# Altium integrated library Zarlink Comm ISDN Circuit.IntLib: 14 symbols
Pins are listed as number, name and electrical type; pins without a type are passive.

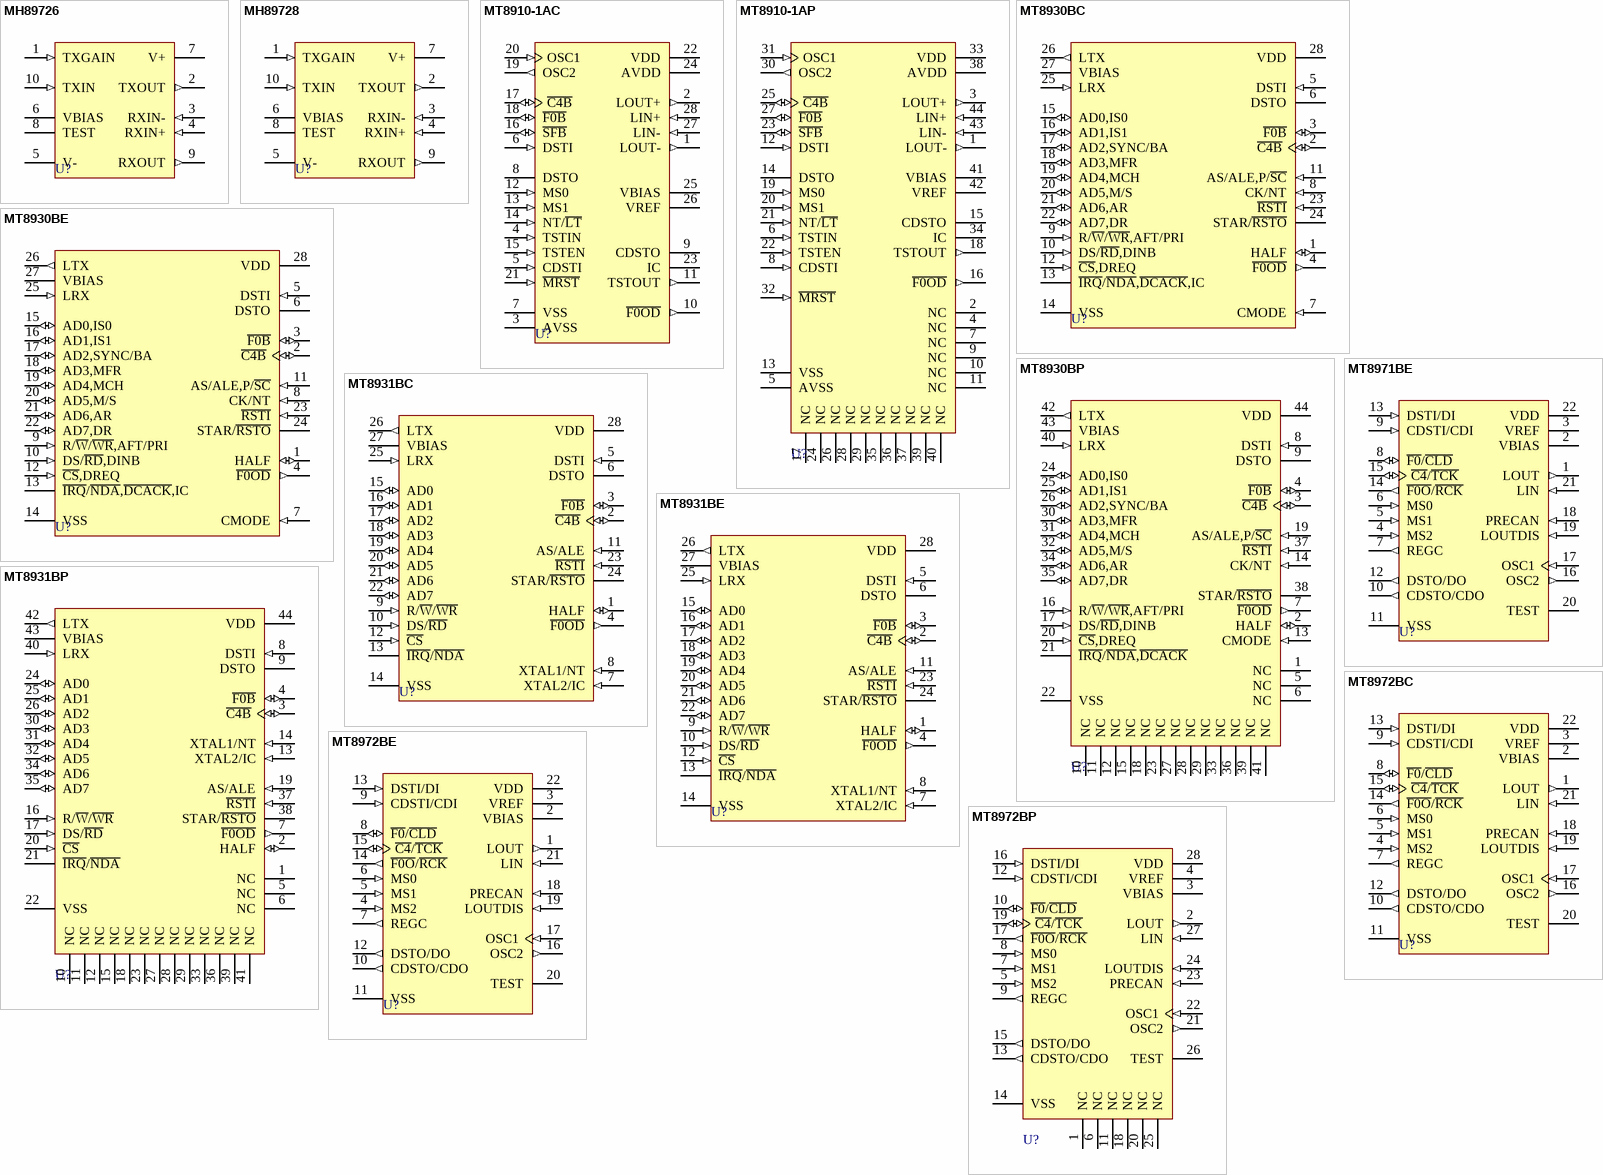
[diagram p0: symbols MH89726 to MT8972BP]

## MH89726
designator U?
Loop Extender Circuits; ComponentAvailability: Obsolete; Published: 8-Jun-2000; LatestRevisionDate: 17-Jul-2002; LatestRevisionNote: Re-released for DXP Platform.; DatasheetVersion: Issue 2 November 1990; PackageVersion: Nov-1990; PackageReference: SIL10A; Publisher: Altium Limited; PackageDescription: SIP; 10 Leads; Body 25.4 x 3.6 mm (LxW typ); Pitch 2.54 mm; ComponentLink1Description: Manufacturer Link; ComponentLink1URL: http://www.zarlink.com/; ComponentLink2Description: Datasheet; ComponentLink2URL: http://assets.zarlink.com/DS/zarlink_MH89726_JAN_02.pdf
footprint SIL10A (SIP; 10 Leads; Body 25.4 x 3.6 mm (LxW typ); Pitch 2.54 mm)
pins: 1 TXGAIN (in), 2 TXOUT (out), 3 RXIN- (in), 4 RXIN+ (in), 5 V- (power), 6 VBIAS, 7 V+ (power), 8 TEST, 9 RXOUT (out), 10 TXIN (in)

## MH89728
designator U?
Loop Extender Circuits; ComponentAvailability: Obsolete; Published: 8-Jun-2000; LatestRevisionDate: 17-Jul-2002; LatestRevisionNote: Re-released for DXP Platform.; DatasheetVersion: Issue 2 November 1990; PackageVersion: Nov-1990; PackageReference: SIL10A; Publisher: Altium Limited; PackageDescription: SIP; 10 Leads; Body 25.4 x 3.6 mm (LxW typ); Pitch 2.54 mm; ComponentLink1Description: Manufacturer Link; ComponentLink1URL: http://www.zarlink.com/; ComponentLink2Description: Datasheet; ComponentLink2URL: http://assets.zarlink.com/DS/zarlink_MH89728_APR_02.pdf
footprint SIL10A (SIP; 10 Leads; Body 25.4 x 3.6 mm (LxW typ); Pitch 2.54 mm)
pins: 1 TXGAIN (in), 2 TXOUT (out), 3 RXIN- (in), 4 RXIN+ (in), 5 V- (power), 6 VBIAS, 7 V+ (power), 8 TEST, 9 RXOUT (out), 10 TXIN (in)

## MT8910-1AC
designator U?
Digital Subscriber Line Interface Circuit; Note: Pin 23 should be left unconnected; ComponentAvailability: Obsolete; Published: 8-Jun-2000; LatestRevisionDate: 17-Jul-2002; LatestRevisionNote: Re-released for DXP Platform.; DatasheetVersion: Issue 1 August 1993; PackageVersion: 1995; PackageReference: CDIP28; Publisher: Altium Limited; PackageDescription: DIP; 28 Leads; Row Spacing 15.24 mm; Pitch 2.54 mm; ComponentLink1Description: Manufacturer Link; ComponentLink1URL: http://products.zarlink.com; ComponentLink2Description: Datasheet; ComponentLink2URL: http://assets.zarlink.com/DS/zarlink_MT8910_MAR_97.pdf
footprint CDIP28 (DIP; 28 Leads; Row Spacing 15.24 mm; Pitch 2.54 mm)
pins: 1 LOUT- (out), 2 LOUT+ (out), 3 AVSS (power), 4 TSTIN (in), 5 CDSTI (in), 6 DSTI (in), 7 VSS (power), 8 DSTO (hiz), 9 CDSTO (hiz), 10 ~{F0OD} (out), 11 TSTOUT (out), 12 MS0 (in), 13 MS1 (in), 14 NT/~{LT} (in), 15 TSTEN (in), 16 ~{SFB} (io), 17 ~{C4B} (io), 18 ~{F0B} (io), 19 OSC2 (out), 20 OSC1 (in), 21 ~{MRST} (in), 22 VDD (power), 23 IC, 24 AVDD (power), 25 VBIAS, 26 VREF, 27 LIN- (in), 28 LIN+ (in)

## MT8910-1AP
designator U?
Digital Subscriber Line Interface Circuit; Note: Pins 2, 4, 7-11, 17, 24, 26, 28, 29, 34-37, 39 and 40 should be left unconnected; ComponentAvailability: Obsolete; Published: 8-Jun-2000; LatestRevisionDate: 13-Apr-2006; LatestRevisionNote: IPC-7351 Footprint Added.; DatasheetVersion: Issue 2 March 1997; PackageVersion: 1997; PackageReference: PLCC44; Publisher: Altium Limited; PackageDescription: 44-Pin Leaded Chip Carrier 1.27 mm Pitch; Code_IPC: PLCC-44; ComponentLink1Description: Manufacturer Link; ComponentLink1URL: http://products.zarlink.com; ComponentLink2Description: Datasheet; ComponentLink2URL: http://assets.zarlink.com/DS/zarlink_MT8910_MAR_97.pdf
footprint PLCC44_N (Leaded Chip Carrier, 44-Leads, Body 16.6x16.6mm, Pitch 1.27mm, IPC Medium Density)
footprint PLCC44_L (Leaded Chip Carrier, 44-Leads, Body 16.6x16.6mm, Pitch 1.27mm, IPC High Density)
footprint PLCC44_M (Leaded Chip Carrier, 44-Leads, Body 16.6x16.6mm, Pitch 1.27mm, IPC Low Density)
pins: 1 LOUT- (out), 2 NC, 3 LOUT+ (out), 4 NC, 5 AVSS (power), 6 TSTIN (in), 7 NC, 8 CDSTI (in), 9 NC, 10 NC, 11 NC, 12 DSTI (in), 13 VSS (power), 14 DSTO (hiz), 15 CDSTO (hiz), 16 ~{F0OD} (out), 17 NC, 18 TSTOUT (out), 19 MS0 (in), 20 MS1 (in), 21 NT/~{LT} (in), 22 TSTEN (in), 23 ~{SFB} (io), 24 NC, 25 ~{C4B} (io), 26 NC, 27 ~{F0B} (io), 28 NC, 29 NC, 30 OSC2 (out), 31 OSC1 (in), 32 ~{MRST} (in), 33 VDD (power), 34 IC, 35 NC, 36 NC, 37 NC, 38 AVDD (power), 39 NC, 40 NC, 41 VBIAS, 42 VREF, 43 LIN- (in), 44 LIN+ (in)

## MT8930BC
designator U?
Subscriber Network Interface Circuit; Published: 8-Jun-2000; LatestRevisionDate: 17-Jul-2002; LatestRevisionNote: Re-released for DXP Platform.; DatasheetVersion: Issue 2 August 1993; PackageVersion: 1995; PackageReference: CDIP28; Publisher: Altium Limited; PackageDescription: DIP; 28 Leads; Row Spacing 15.24 mm; Pitch 2.54 mm; ComponentLink1Description: Manufacturer Link; ComponentLink1URL: http://products.zarlink.com; ComponentLink2Description: Datasheet; ComponentLink2URL: http://assets.zarlink.com/DS/zarlink_MT8930C_FEB_05.pdf
footprint CDIP28 (DIP; 28 Leads; Row Spacing 15.24 mm; Pitch 2.54 mm)
pins: 1 HALF (io), 2 ~{C4B} (io), 3 ~{F0B} (io), 4 ~{F0OD} (out), 5 DSTI (in), 6 DSTO (hiz), 7 CMODE (in), 8 CK/NT (in), 9 R/~{W}/~{WR},AFT/PRI (in), 10 DS/~{RD},DINB (in), 11 AS/ALE,P/~{SC} (in), 12 ~{CS},DREQ (in), 13 ~{IRQ}/~{NDA},~{DCACK},IC (oc), 14 VSS (power), 15 AD0,IS0 (io), 16 AD1,IS1 (io), 17 AD2,SYNC/BA (io), 18 AD3,MFR (io), 19 AD4,MCH (io), 20 AD5,M/S (io), 21 AD6,AR (io), 22 AD7,DR (io), 23 ~{RSTI} (in), 24 STAR/~{RSTO} (oc), 25 LRX (in), 26 LTX (out), 27 VBIAS, 28 VDD (power)

## MT8930BE
designator U?
Subscriber Network Interface Circuit; Published: 8-Jun-2000; LatestRevisionDate: 17-Jul-2002; LatestRevisionNote: Re-released for DXP Platform.; DatasheetVersion: Issue 2 August 1993; PackageVersion: 1997; PackageReference: PDIP28; Publisher: Altium Limited; PackageDescription: DIP; 28 Leads; Row Spacing 15.24 mm; Pitch 2.54 mm; Code_JEDEC: MS-011-AB; ComponentLink1Description: Manufacturer Link; ComponentLink1URL: http://products.zarlink.com; ComponentLink2Description: Datasheet; ComponentLink2URL: http://assets.zarlink.com/DS/zarlink_MT8930C_FEB_05.pdf
footprint PDIP28 (DIP; 28 Leads; Row Spacing 15.24 mm; Pitch 2.54 mm)
pins: 1 HALF (io), 2 ~{C4B} (io), 3 ~{F0B} (io), 4 ~{F0OD} (out), 5 DSTI (in), 6 DSTO (hiz), 7 CMODE (in), 8 CK/NT (in), 9 R/~{W}/~{WR},AFT/PRI (in), 10 DS/~{RD},DINB (in), 11 AS/ALE,P/~{SC} (in), 12 ~{CS},DREQ (in), 13 ~{IRQ}/~{NDA},~{DCACK},IC (oc), 14 VSS (power), 15 AD0,IS0 (io), 16 AD1,IS1 (io), 17 AD2,SYNC/BA (io), 18 AD3,MFR (io), 19 AD4,MCH (io), 20 AD5,M/S (io), 21 AD6,AR (io), 22 AD7,DR (io), 23 ~{RSTI} (in), 24 STAR/~{RSTO} (oc), 25 LRX (in), 26 LTX (out), 27 VBIAS, 28 VDD (power)

## MT8930BP
designator U?
Subscriber Network Interface Circuit; Published: 8-Jun-2000; LatestRevisionDate: 13-Apr-2006; LatestRevisionNote: IPC-7351 Footprint Added.; DatasheetVersion: Issue 2 August 1993; PackageVersion: 1997; PackageReference: PLCC44; Publisher: Altium Limited; PackageDescription: 44-Pin Leaded Chip Carrier 1.27 mm Pitch; Code_IPC: PLCC-44; ComponentLink1Description: Manufacturer Link; ComponentLink1URL: http://products.zarlink.com; ComponentLink2Description: Datasheet; ComponentLink2URL: http://assets.zarlink.com/DS/zarlink_MT8930C_FEB_05.pdf
footprint PLCC44_N (Leaded Chip Carrier, 44-Leads, Body 16.6x16.6mm, Pitch 1.27mm, IPC Medium Density)
footprint PLCC44_L (Leaded Chip Carrier, 44-Leads, Body 16.6x16.6mm, Pitch 1.27mm, IPC High Density)
footprint PLCC44_M (Leaded Chip Carrier, 44-Leads, Body 16.6x16.6mm, Pitch 1.27mm, IPC Low Density)
pins: 1 NC, 2 HALF (io), 3 ~{C4B} (io), 4 ~{F0B} (io), 5 NC, 6 NC, 7 ~{F0OD} (out), 8 DSTI (in), 9 DSTO (hiz), 10 NC, 11 NC, 12 NC, 13 CMODE (in), 14 CK/NT (in), 15 NC, 16 R/~{W}/~{WR},AFT/PRI (in), 17 DS/~{RD},DINB (in), 18 NC, 19 AS/ALE,P/~{SC} (in), 20 ~{CS},DREQ (in), 21 ~{IRQ}/~{NDA},~{DCACK} (oc), 22 VSS (power), 23 NC, 24 AD0,IS0 (io), 25 AD1,IS1 (io), 26 AD2,SYNC/BA (io), 27 NC, 28 NC, 29 NC, 30 AD3,MFR (io), 31 AD4,MCH (io), 32 AD5,M/S (io), 33 NC, 34 AD6,AR (io), 35 AD7,DR (io), 36 NC, 37 ~{RSTI} (in), 38 STAR/~{RSTO} (oc), 39 NC, 40 LRX (in), 41 NC, 42 LTX (out), 43 VBIAS, 44 VDD (power)

## MT8931BC
designator U?
Subscriber Network Interface Circuit; Published: 8-Jun-2000; LatestRevisionDate: 17-Jul-2002; LatestRevisionNote: Re-released for DXP Platform.; DatasheetVersion: Issue 2 August 1993; PackageVersion: 1995; PackageReference: CDIP28; Publisher: Altium Limited; PackageDescription: DIP; 28 Leads; Row Spacing 15.24 mm; Pitch 2.54 mm; ComponentLink1Description: Manufacturer Link; ComponentLink1URL: http://products.zarlink.com; ComponentLink2Description: Datasheet; ComponentLink2URL: http://assets.zarlink.com/DS/zarlink_MT8931C_NOV_97.pdf
footprint CDIP28 (DIP; 28 Leads; Row Spacing 15.24 mm; Pitch 2.54 mm)
pins: 1 HALF (io), 2 ~{C4B} (io), 3 ~{F0B} (io), 4 ~{F0OD} (out), 5 DSTI (in), 6 DSTO (hiz), 7 XTAL2/IC (in), 8 XTAL1/NT (in), 9 R/~{W}/~{WR} (in), 10 DS/~{RD} (in), 11 AS/ALE (in), 12 ~{CS} (in), 13 ~{IRQ}/~{NDA} (oc), 14 VSS (power), 15 AD0 (io), 16 AD1 (io), 17 AD2 (io), 18 AD3 (io), 19 AD4 (io), 20 AD5 (io), 21 AD6 (io), 22 AD7 (io), 23 ~{RSTI} (in), 24 STAR/~{RSTO} (oc), 25 LRX (in), 26 LTX (out), 27 VBIAS, 28 VDD (power)

## MT8931BE
designator U?
Subscriber Network Interface Circuit; Published: 8-Jun-2000; LatestRevisionDate: 17-Jul-2002; LatestRevisionNote: Re-released for DXP Platform.; DatasheetVersion: Issue 2 August 1993; PackageVersion: 1997; PackageReference: PDIP28; Publisher: Altium Limited; PackageDescription: DIP; 28 Leads; Row Spacing 15.24 mm; Pitch 2.54 mm; Code_JEDEC: MS-011-AB; ComponentLink1Description: Manufacturer Link; ComponentLink1URL: http://products.zarlink.com; ComponentLink2Description: Datasheet; ComponentLink2URL: http://assets.zarlink.com/DS/zarlink_MT8931C_NOV_97.pdf
footprint PDIP28 (DIP; 28 Leads; Row Spacing 15.24 mm; Pitch 2.54 mm)
pins: 1 HALF (io), 2 ~{C4B} (io), 3 ~{F0B} (io), 4 ~{F0OD} (out), 5 DSTI (in), 6 DSTO (hiz), 7 XTAL2/IC (in), 8 XTAL1/NT (in), 9 R/~{W}/~{WR} (in), 10 DS/~{RD} (in), 11 AS/ALE (in), 12 ~{CS} (in), 13 ~{IRQ}/~{NDA} (oc), 14 VSS (power), 15 AD0 (io), 16 AD1 (io), 17 AD2 (io), 18 AD3 (io), 19 AD4 (io), 20 AD5 (io), 21 AD6 (io), 22 AD7 (io), 23 ~{RSTI} (in), 24 STAR/~{RSTO} (oc), 25 LRX (in), 26 LTX (out), 27 VBIAS, 28 VDD (power)

## MT8931BP
designator U?
Subscriber Network Interface Circuit; Published: 8-Jun-2000; LatestRevisionDate: 13-Apr-2006; LatestRevisionNote: IPC-7351 Footprint Added.; DatasheetVersion: Issue 2 August 1993; PackageVersion: 1997; PackageReference: PLCC44; Publisher: Altium Limited; PackageDescription: 44-Pin Leaded Chip Carrier 1.27 mm Pitch; Code_IPC: PLCC-44; ComponentLink1Description: Manufacturer Link; ComponentLink1URL: http://www.zarlink.com/; ComponentLink2Description: Datasheet; ComponentLink2URL: http://assets.zarlink.com/DS/zarlink_MT8931C_NOV_97.pdf
footprint PLCC44_N (Leaded Chip Carrier, 44-Leads, Body 16.6x16.6mm, Pitch 1.27mm, IPC Medium Density)
footprint PLCC44_L (Leaded Chip Carrier, 44-Leads, Body 16.6x16.6mm, Pitch 1.27mm, IPC High Density)
footprint PLCC44_M (Leaded Chip Carrier, 44-Leads, Body 16.6x16.6mm, Pitch 1.27mm, IPC Low Density)
pins: 1 NC, 2 HALF (io), 3 ~{C4B} (io), 4 ~{F0B} (io), 5 NC, 6 NC, 7 ~{F0OD} (out), 8 DSTI (in), 9 DSTO (hiz), 10 NC, 11 NC, 12 NC, 13 XTAL2/IC (in), 14 XTAL1/NT (in), 15 NC, 16 R/~{W}/~{WR} (in), 17 DS/~{RD} (in), 18 NC, 19 AS/ALE (in), 20 ~{CS} (in), 21 ~{IRQ}/~{NDA} (oc), 22 VSS (power), 23 NC, 24 AD0 (io), 25 AD1 (io), 26 AD2 (io), 27 NC, 28 NC, 29 NC, 30 AD3 (io), 31 AD4 (io), 32 AD5 (io), 33 NC, 34 AD6 (io), 35 AD7 (io), 36 NC, 37 ~{RSTI} (in), 38 STAR/~{RSTO} (oc), 39 NC, 40 LRX (in), 41 NC, 42 LTX (out), 43 VBIAS, 44 VDD (power)

## MT8971BE
designator U?
Digital Subscriber Interface Circuit Digital Network Interface Circuit; Published: 8-Jun-2000; LatestRevisionDate: 17-Jul-2002; LatestRevisionNote: Re-released for DXP Platform.; DatasheetVersion: Issue 7 May 1995; PackageVersion: 1997; PackageReference: PDIP22; Publisher: Altium Limited; PackageDescription: DIP; 22 Leads; Row Spacing 10.16 mm; Pitch 2.54 mm; ComponentLink1Description: Manufacturer Link; ComponentLink1URL: http://www.zarlink.com/; ComponentLink2Description: Datasheet; ComponentLink2URL: http://assets.zarlink.com/DS/zarlink_MT8971B_JAN_01.pdf
footprint PDIP22 (DIP; 22 Leads; Row Spacing 10.16 mm; Pitch 2.54 mm)
pins: 1 LOUT (out), 2 VBIAS, 3 VREF, 4 MS2 (in), 5 MS1 (in), 6 MS0 (in), 7 REGC (out), 8 ~{F0}/~{CLD} (io), 9 CDSTI/CDI (in), 10 CDSTO/CDO (out), 11 VSS (power), 12 DSTO/DO (out), 13 DSTI/DI (in), 14 ~{F0O}/~{RCK} (out), 15 ~{C4}/~{TCK} (io), 16 OSC2 (out), 17 OSC1 (in), 18 PRECAN (in), 19 LOUTDIS (in), 20 TEST, 21 LIN (in), 22 VDD (power)

## MT8972BC
designator U?
Digital Subscriber Interface Circuit Digital Network Interface Circuit; ComponentAvailability: Obsolete; Published: 8-Jun-2000; LatestRevisionDate: 17-Jul-2002; LatestRevisionNote: Re-released for DXP Platform.; DatasheetVersion: Issue 7 May 1995; PackageVersion: 1995; PackageReference: CDIP22; Publisher: Altium Limited; PackageDescription: DIP; 22 Leads; Row Spacing 10.16 mm; Pitch 2.54 mm; ComponentLink1Description: Manufacturer Link; ComponentLink1URL: http://www.zarlink.com/; ComponentLink2Description: Datasheet; ComponentLink2URL: http://assets.zarlink.com/DS/zarlink_MT8972B_JAN_01.pdf
footprint CDIP22 (DIP; 22 Leads; Row Spacing 10.16 mm; Pitch 2.54 mm)
pins: 1 LOUT (out), 2 VBIAS, 3 VREF, 4 MS2 (in), 5 MS1 (in), 6 MS0 (in), 7 REGC (out), 8 ~{F0}/~{CLD} (io), 9 CDSTI/CDI (in), 10 CDSTO/CDO (out), 11 VSS (power), 12 DSTO/DO (out), 13 DSTI/DI (in), 14 ~{F0O}/~{RCK} (out), 15 ~{C4}/~{TCK} (io), 16 OSC2 (out), 17 OSC1 (in), 18 PRECAN (in), 19 LOUTDIS (in), 20 TEST, 21 LIN (in), 22 VDD (power)

## MT8972BE
designator U?
Digital Subscriber Interface Circuit Digital Network Interface Circuit; ComponentAvailability: Obsolete; Published: 8-Jun-2000; LatestRevisionDate: 17-Jul-2002; LatestRevisionNote: Re-released for DXP Platform.; DatasheetVersion: Issue 7 May 1995; PackageVersion: 1997; PackageReference: PDIP22; Publisher: Altium Limited; PackageDescription: DIP; 22 Leads; Row Spacing 10.16 mm; Pitch 2.54 mm; ComponentLink1Description: Manufacturer Link; ComponentLink1URL: http://www.zarlink.com/; ComponentLink2Description: Datasheet; ComponentLink2URL: http://assets.zarlink.com/DS/zarlink_MT8972B_JAN_01.pdf
footprint PDIP22 (DIP; 22 Leads; Row Spacing 10.16 mm; Pitch 2.54 mm)
pins: 1 LOUT (out), 2 VBIAS, 3 VREF, 4 MS2 (in), 5 MS1 (in), 6 MS0 (in), 7 REGC (out), 8 ~{F0}/~{CLD} (io), 9 CDSTI/CDI (in), 10 CDSTO/CDO (out), 11 VSS (power), 12 DSTO/DO (out), 13 DSTI/DI (in), 14 ~{F0O}/~{RCK} (out), 15 ~{C4}/~{TCK} (io), 16 OSC2 (out), 17 OSC1 (in), 18 PRECAN (in), 19 LOUTDIS (in), 20 TEST, 21 LIN (in), 22 VDD (power)

## MT8972BP
designator U?
Digital Subscriber Interface Circuit Digital Network Interface Circuit; Note: Pins 1, 6, 11, 18, 20 and 25 should be left unconnected; ComponentAvailability: Obsolete; Published: 8-Jun-2000; LatestRevisionDate: 13-Apr-2006; LatestRevisionNote: IPC-7351 Footprint Added.; DatasheetVersion: Issue 7 May 1995; PackageVersion: 1997; PackageReference: PLCC28; Publisher: Altium Limited; PackageDescription: 28-Pin Leaded Chip Carrier 1.27 mm Pitch; Code_IPC: PLCC-28; ComponentLink1Description: Manufacturer Link; ComponentLink1URL: http://www.zarlink.com/; ComponentLink2Description: Datasheet; ComponentLink2URL: http://assets.zarlink.com/DS/zarlink_MT8972B_JAN_01.pdf
footprint PLCC28_N (Leaded Chip Carrier, 28-Leads, Body 11.5x11.5mm, Pitch 1.27mm, IPC Medium Density)
footprint PLCC28_L (Leaded Chip Carrier, 28-Leads, Body 11.5x11.5mm, Pitch 1.27mm, IPC High Density)
footprint PLCC28_M (Leaded Chip Carrier, 28-Leads, Body 11.5x11.5mm, Pitch 1.27mm, IPC Low Density)
pins: 1 NC, 2 LOUT (out), 3 VBIAS, 4 VREF, 5 MS2 (in), 6 NC, 7 MS1 (in), 8 MS0 (in), 9 REGC (out), 10 ~{F0}/~{CLD} (io), 11 NC, 12 CDSTI/CDI (in), 13 CDSTO/CDO (out), 14 VSS (power), 15 DSTO/DO (out), 16 DSTI/DI (in), 17 ~{F0O}/~{RCK} (out), 18 NC, 19 ~{C4}/~{TCK} (io), 20 NC, 21 OSC2 (out), 22 OSC1 (in), 23 PRECAN (in), 24 LOUTDIS (in), 25 NC, 26 TEST, 27 LIN (in), 28 VDD (power)